# EAGLE library part HALFMOONS_4X2 (library F030NG)
SMD solder 4/2 jumper
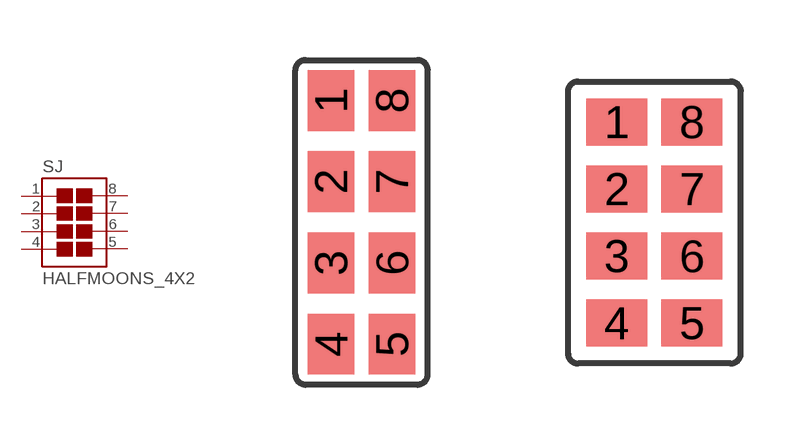
[diagram p86: symbol with the pads of HALFMOONS_4X2; footprints HALFMOONS_4X2, HALFMOONS_4X2-H]

Designator prefix SJ

## HALFMOONS_4X2-W  [HALFMOONS_4X2]
1  1  pas
2  2  pas
3  3  pas
4  4  pas
5  5  pas
6  6  pas
7  7  pas
8  8  pas

## HALFMOONS_4X2-H  [HALFMOONS_4X2-H]
Pads as for HALFMOONS_4X2

## Footprint HALFMOONS_4X2 (pad centres in mm)
Solder jumper
smd 1.168 x 1.524: 1 -0.762,0; 2 -0.762,-2.032; 3 -0.762,-4.064; 4 -0.762,-6.096; 5 0.762,-6.096; 6 0.762,-4.064; 7 0.762,-2.032; 8 0.762,0

## Footprint HALFMOONS_4X2-H (pad centres in mm)
Solder jumper
smd 1.524 x 1.168: 1 -0.94,0; 2 -0.94,-1.676; 3 -0.94,-3.353; 4 -0.94,-5.029; 5 0.94,-5.029; 6 0.94,-3.353; 7 0.94,-1.676; 8 0.94,0